# EAGLE library part 612X1020621 (library Wuerth_Elektronik_eiCan_Box_Header_&_IDC_Connectors_v1.2)
WR-BHD 2.54mm Male SMT Box Header High Temperature, 10 pins
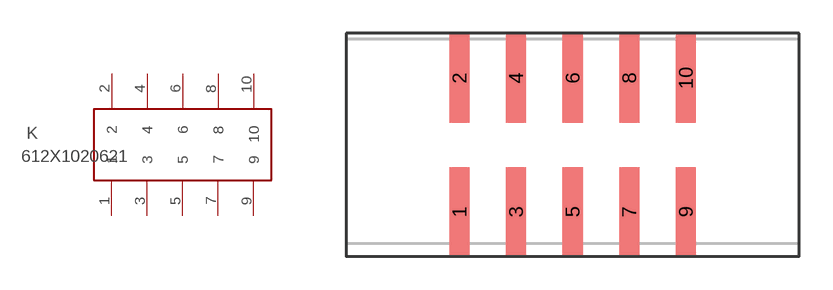
[diagram p66: symbol with the pads of 612X1020621; footprint 612X1020621]

Designator prefix K

## 612X1020621  [612X1020621]
1  1  pas
2  2  pas
3  3  pas
4  4  pas
5  5  pas
6  6  pas
7  7  pas
8  8  pas
9  9  pas
10  10  pas

## Footprint 612X1020621 (pad centres in mm)
WR-BHD 2.54mm Male SMT Box Header High Temperature, 10 pins
smd 0.9 x 4: 1 -3.81,-3; 2 -3.81,3; 3 -1.27,-3; 4 -1.27,3; 5 1.27,-3; 6 1.27,3; 7 3.81,-3; 8 3.81,3; 9 6.35,-3; 10 6.35,3